# EAGLE library part SCP1000_D01 (library SparkFun)
SCP1000 Barometric pressure sensor. Schematic elements and footprint production proven. Spark Fun Electronics SKU : COM-08128
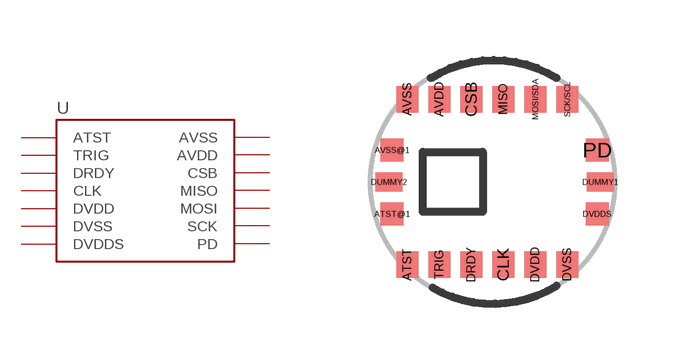
[diagram p42: symbol with the pads of SCP1000; footprint SCP1000]

Designator prefix -

## SCP1000_D01SMD  [SCP1000]
ATST  ATST
AVDD  AVDD
AVSS  AVSS
CLK  CLK
CSB  CSB
DRDY  DRDY
DVDD  DVDD
DVDDS  DVDDS
DVSS  DVSS
MISO  MISO
MOSI/SDA  MOSI
PD  PD
SCK/SCL  SCK
TRIG  TRIG

## Footprint SCP1000 (pad centres in mm)
smd 0.55 x 0.67: ATST -2.135,-2.07; AVDD -1.335,2.07; AVSS -2.135,2.07; CLK 0.265,-2.07; CSB -0.535,2.07; DRDY -0.535,-2.07; DVDD 1.065,-2.07; DVSS 1.865,-2.07; MISO 0.265,2.07; MOSI/SDA 1.065,2.07; SCK/SCL 1.865,2.07; TRIG -1.335,-2.07
smd 0.57 x 0.57: ATST@1 -2.515,-0.8; AVSS@1 -2.515,0.8; DVDDS 2.615,-0.8; PD 2.615,0.8
smd 0.67 x 0.47: DUMMY1 2.695,0; DUMMY2 -2.595,0